# Altium schematic symbol library Speaker.SchLib: 3 symbols
Pins are listed as number, name and electrical type; pins without a type are passive.

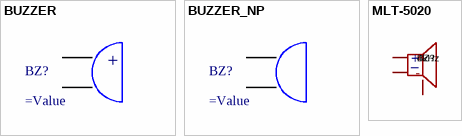
[diagram p0: symbols BUZZER to MLT-5020]

## BUZZER
designator BZ?
=Description
pins: 1, 2
text: +

## BUZZER_NP
designator BZ?
=Description
pins: 1, 2

## MLT-5020
designator BZ?, comment 4kHz
=Description; Manufacturer: 华能; Add into BOM: yes; Oscillator Circuit: 无源(外部驱动); Technology Type: 电磁式; Symbol: MLT-5020; Device: MLT-5020; LCSC Part Name: MLT-5020; Supplier Part: C94598; Manufacturer Part: MLT-5020; Supplier Footprint: SMD,5x5mm; JLCPCB Part Class: Extended Part; Datasheet: https://atta.szlcsc.com/upload/public/pdf/source/20210811/111454390007D221D7259018FB170E62.pdf; Supplier: LCSC; Convert to PCB: yes; Value: 4kHz; Length: 5.2mm; Width: 5.2mm; Height: 2.5mm
footprint BUZ-SMD_L5.0-W5.5-P4.60
pins: 1 +, 2 -, 3 NC
text: _